# Altium footprint library alexsb.PCBLIB: 444 footprints (part 19 of 28)
Each footprint in its own frame and in the unit in brackets; x right, y up, seen from the top. Pads: shape width x height; smd on the part's side, far side on the other; paste and mask are expansions set on the pad; w line width, h text height; cw(c..) or ccw(c..) is an arc to the next point about the centre after c.
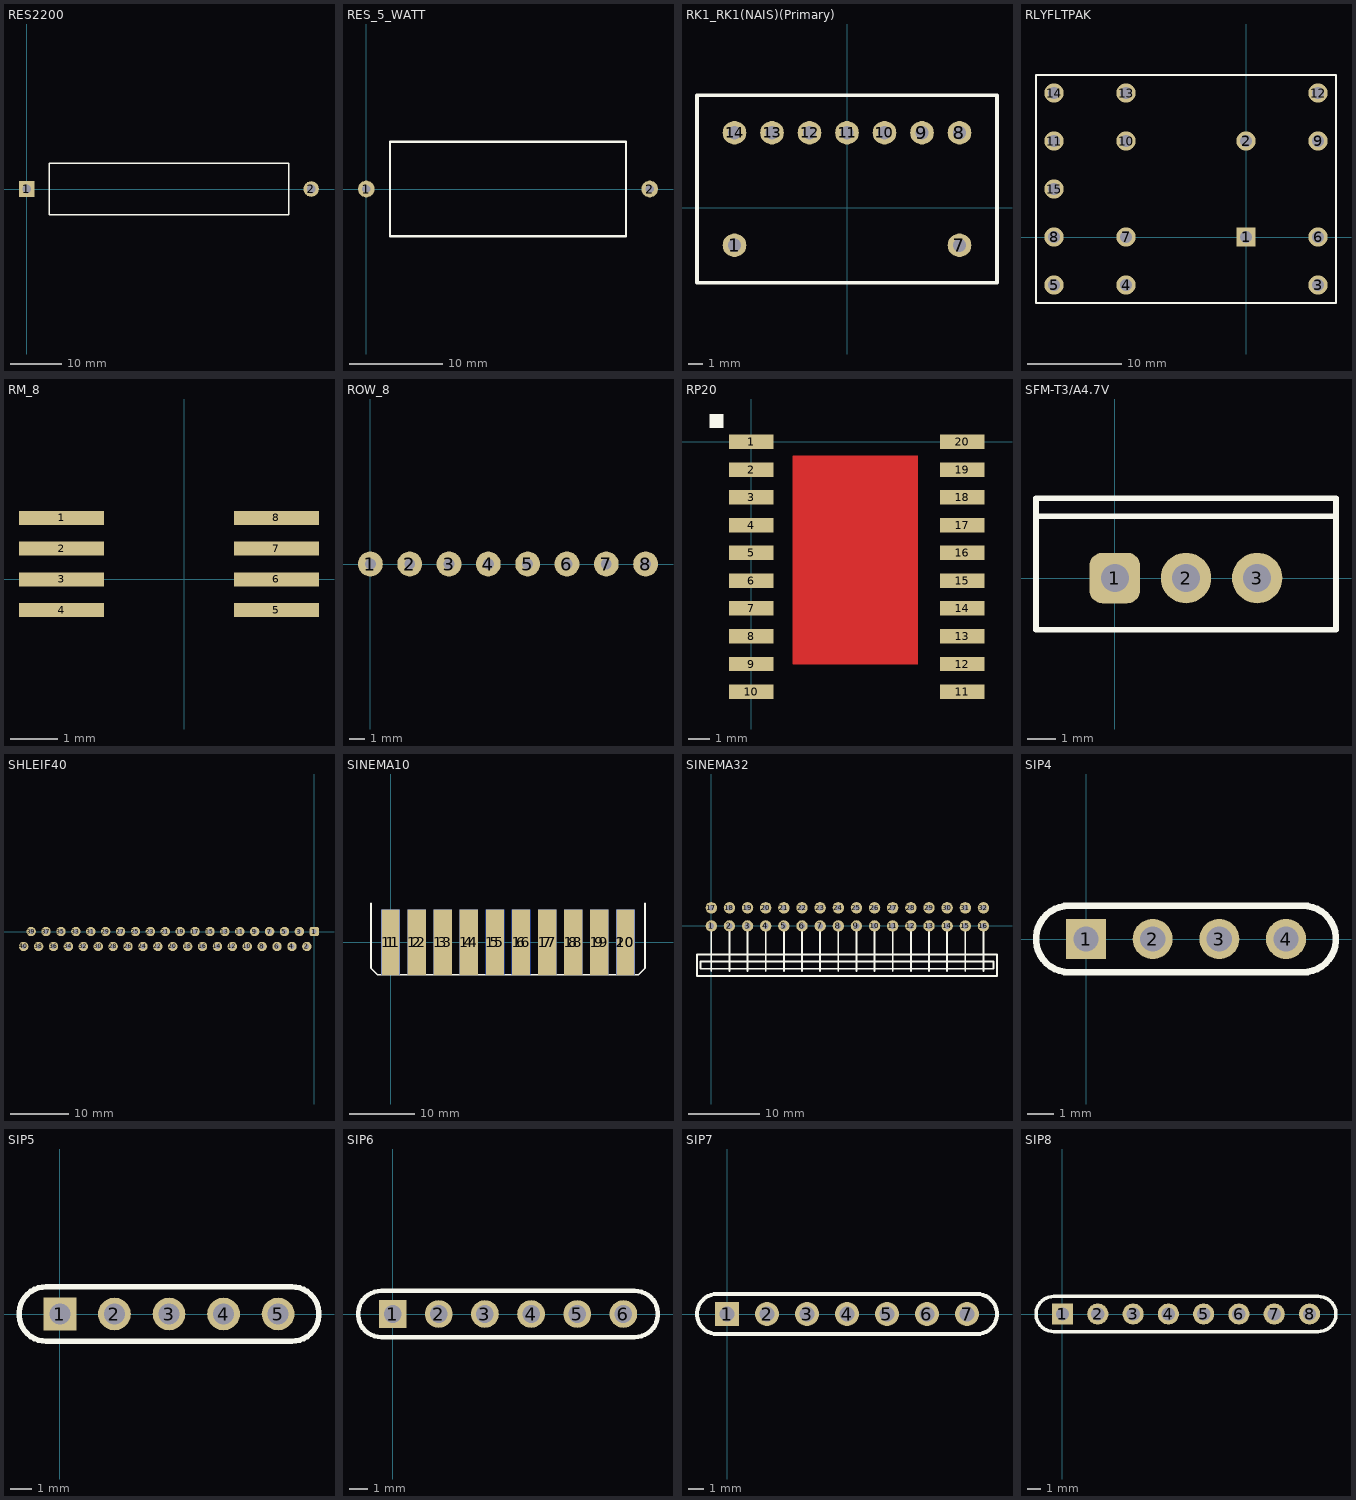
[diagram p18: the footprints below, top view; thin cyan lines are the x and y axes]

## RES2200 [mil]
pads (2):
  rect 120x120 hole 68: 1(0,0)
  round 120 hole 68: 2(2200,0)
Top Overlay:
  lines w10: 175,-200 175,200 2025,200 2025,-200 175,-200

## RES_5_WATT [mm]
pads (2):
  round 1.8 hole 0.9: 1(0,0) 2(30.48,0)
Top Overlay:
  lines w0.254: 2.54,-5.08 27.94,-5.08 27.94,5.08 2.54,5.08 2.54,-5.08

## RK1_RK1(NAIS)(Primary) [mm]
pads (9):
  round 1.6 hole 0.9: 1(-7.62,-2.54) 7(7.62,-2.54) 8(7.62,5.08) 9(5.08,5.08) 10(2.54,5.08) 11(0,5.08) 12(-2.54,5.08) 13(-5.08,5.08) 14(-7.62,5.08)
Top Overlay:
  lines w0.254: -10.16,-5.08 10.16,-5.08 10.16,7.62 -10.16,7.62 -10.16,-5.08

## RLYFLTPAK [mil]
pads (15):
  rect 80x80 hole 52: 1(0,0)
  round 80 hole 52: 2(0,400) 3(300,-200) 4(-500,-200) 5(-800,-200) 6(300,0) 7(-500,0) 8(-800,0) 9(300,400) 10(-500,400) 11(-800,400) 12(300,600) 13(-500,600) 14(-800,600) 15(-800,200)
Top Overlay:
  lines w10: -875,-275 375,-275 375,675 -875,675 -875,-275

## RM_8 [mm]
pads (8):
  rect 1.8x0.3 smd: 1(-2.6,1.3) 2(-2.6,0.65) 3(-2.6,0) 4(-2.6,-0.65) 5(1.95,-0.65) 6(1.95,0) 7(1.95,0.65) 8(1.95,1.3)

## ROW_8 [mm]
pads (8):
  round 1.6 hole 0.7: 1(0,0) 2(2.54,0) 3(5.08,0) 4(7.62,0) 5(10.16,0) 6(12.7,0) 7(15.24,0) 8(17.78,0)

## RP20 [mil]
pads (20):
  rect 80x26 smd: 1(0,0) 2(0,-50) 3(0,-100) 4(0,-150) 5(0,-200) 6(0,-250) 7(0,-300) 8(0,-350) 9(0,-400) 10(0,-450) 11(380,-450) 12(380,-400) 13(380,-350) 14(380,-300) 15(380,-250) 16(380,-200) 17(380,-150) 18(380,-100) 19(380,-50) 20(380,0)
Top Layer:
  region: 75,-25 75,-400 300,-400 300,-25
Top Overlay:
  region: -75,25 -50,25 -50,50 -75,50

## SFM-T3/A4.7V [mm]
pads (3):
  rrect50% 1.8x1.8 hole 1: 1(0,0)
  round 1.8 hole 1: 2(2.54,0) 3(5.08,0)
Top Overlay:
  lines w0.2: -2.81,2.2 7.89,2.2 ; -2.81,-1.85 7.89,-1.85 7.89,2.85 -2.81,2.85 -2.81,-1.85

## SHLEIF40 [mm]
pads (40):
  rrect50% 1.6x1.6 hole 0.8: 1(0,0)
  round 1.6 hole 0.8: 2(-1.27,-2.54) 3(-2.54,0) 4(-3.81,-2.54) 5(-5.08,0) 6(-6.35,-2.54) 7(-7.62,0) 8(-8.89,-2.54) 9(-10.16,0) 10(-11.43,-2.54) 11(-12.7,0) 12(-13.97,-2.54) 13(-15.24,0) 14(-16.51,-2.54) 15(-17.78,0) 16(-19.05,-2.54) 17(-20.32,0) 18(-21.59,-2.54) 19(-22.86,0) 20(-24.13,-2.54) 21(-25.4,0) 22(-26.67,-2.54) 23(-27.94,0) 24(-29.21,-2.54) 25(-30.48,0) 26(-31.75,-2.54) 27(-33.02,0) 28(-34.29,-2.54) 29(-35.56,0) 30(-36.83,-2.54) 31(-38.1,0) 32(-39.37,-2.54) 33(-40.64,0) 34(-41.91,-2.54) 35(-43.18,0) 36(-44.45,-2.54) 37(-45.72,0) 38(-46.99,-2.54) 39(-48.26,0) 40(-49.53,-2.54)

## SINEMA10 [mm]
pads (20):
  rect 2.8x10 smd: 1(0,0) 2(4,0) 3(8,0) 4(12,0) 5(16,0) 6(20,0) 7(24,0) 8(28,0) 9(32,0) 10(36,0)
  rect 2.8x10 smd far side: 11(0,0) 12(4,0) 13(8,0) 14(12,0) 15(16,0) 16(20,0) 17(24,0) 18(28,0) 19(32,0) 20(36,0)
Top Overlay:
  lines w0.254: -3,6 -3,-4 -2,-5 38,-5 39,-4 39,6

## SINEMA32 [mm]
pads (32):
  round 1.6 hole 0.8: 1(0,0) 2(2.54,0) 3(5.08,0) 4(7.62,0) 5(10.16,0) 6(12.7,0) 7(15.24,0) 8(17.78,0) 9(20.32,0) 10(22.86,0) 11(25.4,0) 12(27.94,0) 13(30.48,0) 14(33.02,0) 15(35.56,0) 16(38.1,0) 17(0,2.54) 18(2.54,2.54) 19(5.08,2.54) 20(7.62,2.54) 21(10.16,2.54) 22(12.7,2.54) 23(15.24,2.54) 24(17.78,2.54) 25(20.32,2.54) 26(22.86,2.54) 27(25.4,2.54) 28(27.94,2.54) 29(30.48,2.54) 30(33.02,2.54) 31(35.56,2.54) 32(38.1,2.54)
Top Overlay:
  lines w0.254: 0,-6.35 0,0 ; 2.54,-6.35 2.54,0 ; 5.08,-6.35 5.08,0 ; 7.62,-6.35 7.62,0 ; 10.16,-6.35 10.16,0 ; 12.7,-6.35 12.7,0 ; 15.24,-6.35 15.24,0 ; 17.78,-6.35 17.78,0 ; 20.32,-6.35 20.32,0 ; 22.86,-6.35 22.86,0 ; 25.4,-6.35 25.4,0 ; 27.94,-6.35 27.94,0 ; 30.48,-6.35 30.48,0 ; 33.02,-6.35 33.02,0 ; 35.56,-6.35 35.56,0 ; 38.1,-6.35 38.1,0 ; -2,-7 40,-7 40,-4 -2,-4 -2,-7 ; -1.5,-6 39.5,-6 39.5,-5.5 39.5,-5 -1.5,-5 -1.5,-6

## SIP4 [mil]
pads (4):
  rect 60x60 hole 38: 1(0,0)
  round 60 hole 38: 2(100,0) 3(200,0) 4(300,0)
Top Overlay:
  lines w10: -25,-50 cw(c-25,0) -25,50 325,50 cw(c325,0) 325,-50 -25,-50

## SIP5 [mil]
pads (5):
  rect 60x60 hole 38: 1(0,0)
  round 60 hole 38: 2(100,0) 3(200,0) 4(300,0) 5(400,0)
Top Overlay:
  lines w10: -25,-50 cw(c-25,0) -25,50 425,50 cw(c425,0) 425,-50 -25,-50

## SIP6 [mil]
pads (6):
  rect 60x60 hole 38: 1(0,0)
  round 60 hole 38: 2(100,0) 3(200,0) 4(300,0) 5(400,0) 6(500,0)
Top Overlay:
  lines w10: -25,-50 cw(c-25,0) -25,50 525,50 cw(c525,0) 525,-50 -25,-50

## SIP7 [mil]
pads (7):
  rect 60x60 hole 38: 1(0,0)
  round 60 hole 38: 2(100,0) 3(200,0) 4(300,0) 5(400,0) 6(500,0) 7(600,0)
Top Overlay:
  lines w10: -25,-50 cw(c-25,0) -25,50 625,50 cw(c625,0) 625,-50 -25,-50

## SIP8 [mil]
pads (8):
  rect 60x60 hole 38: 1(0,0)
  round 60 hole 38: 2(100,0) 3(200,0) 4(300,0) 5(400,0) 6(500,0) 7(600,0) 8(700,0)
Top Overlay:
  lines w10: -25,-50 cw(c-25,0) -25,50 725,50 cw(c725,0) 725,-50 -25,-50